# EAGLE library part HCMS-390* (library display-lcd)
3.3 V High Performance CMOS 5x7 AlphaNumeric LED Display
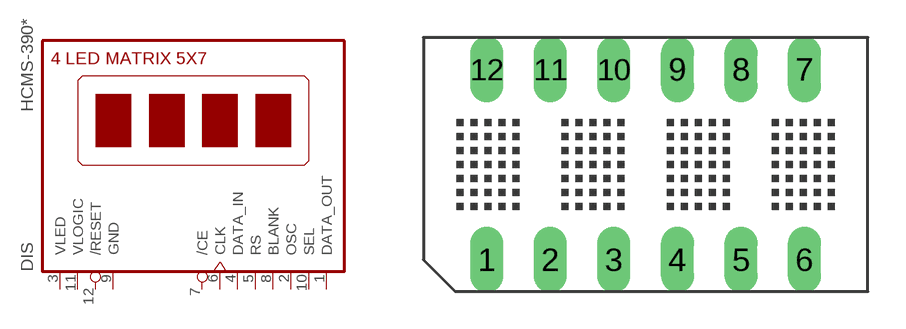
[diagram p11: symbol with the pads of HCMS-390*; footprint HCMS-390*]

Designator prefix DIS

## HCMS-3906, HCMS-3907  [HCMS-390*]
1  DATA_OUT  out
2  OSC  pas
3  VLED  pwr
4  DATA_IN  in
5  RS  in
6  CLK  in
7  /CE  in
8  BLANK  in
9  GND  pwr
10  SEL  in
11  VLOGIC  pwr
12  /RESET  in

## Footprint HCMS-390* (pad centres in mm)
drill 0.813 long: 1 -6.35,-3.81; 2 -3.81,-3.81; 3 -1.27,-3.81; 4 1.27,-3.81; 5 3.81,-3.81; 6 6.35,-3.81; 7 6.35,3.81; 8 3.81,3.81; 9 1.27,3.81; 10 -1.27,3.81; 11 -3.81,3.81; 12 -6.35,3.81